# Altium footprint library PcbLib1.PcbLib: 5 footprints
Each footprint in its own frame and in the unit in brackets; x right, y up, seen from the top. Pads: shape width x height; smd on the part's side, far side on the other; paste and mask are expansions set on the pad; w line width, h text height; cw(c..) or ccw(c..) is an arc to the next point about the centre after c.
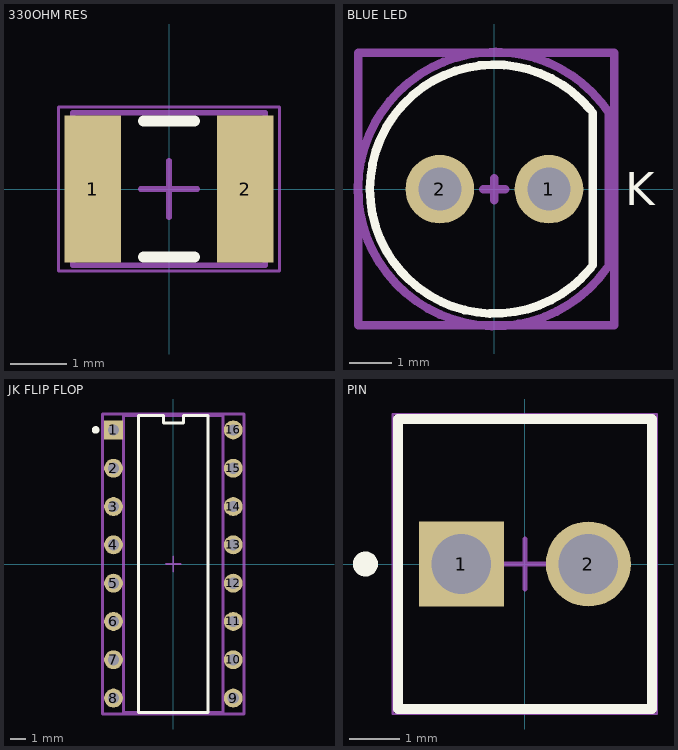
[diagram p0: the footprints below, top view; thin cyan lines are the x and y axes]

## 330OHM RES [mm] "Chip Resistor, 2-Leads, Body 3.20x2.50mm, IPC High Density"
height 0.6
pads (2):
  rect 1x2.6 smd: 1(-1.35,0) 2(1.35,0)
Top Overlay:
  lines w0.2: -0.45,-1.2 0.45,-1.2 ; -0.45,1.2 0.45,1.2
Mechanical 13:
  lines w0.1: -1.7,-1.35 1.7,-1.35 1.7,1.35 -1.7,1.35 -1.7,-1.35
Mechanical 15:
  lines w0.05: -1.95,-1.45 1.95,-1.45 1.95,1.45 -1.95,1.45 -1.95,-1.45
  lines w0.1: -0.5,0 0.5,0 ; 0,-0.5 0,0.5
3D body: height 0.6, standoff 0, extent 1.25,-1.35 1.7,1.35
3D body: height 0.6, standoff 0, extent -1.7,-1.35 -1.25,1.35
3D body: height 0.6, standoff 0, extent -1.25,-1.35 1.25,1.35

## BLUE LED [mm] "THT, LED-5mm, 2pin- Body 5.8mm"
height 12.1
pads (2):
  round 1.6 hole 1: 1(1.27,0) 2(-1.27,0)
Top Overlay:
  lines w0.2: -2.47,1.52 cw(c0,0) 2.228,1.857 ; -2.369,1.672 ccw(c0,0) 2.239,-1.844 ; 2.286,-1.778 2.286,1.778
  text "K" at 3.048,-0.381 h0.76
Mechanical 13:
  lines w0.2: -3.175,-3.175 -3.175,3.175 2.794,3.175 2.794,-3.175 -3.175,-3.175
Mechanical 15:
  lines w0.2: -0.254,0 0.254,0 ; 0,-0.254 0,0.254 ; 2.616,-1.846 cw(c0.014,0.003) 2.667,1.778 2.667,-1.778
  text "K" at 3.048,-0.381 h0.76
  text ".Designator" at 0,0 h0.76
3D body "WL-TMRW_5mm.stp": height 11.7, standoff -23.3, extent -2.9,-2.9 2.5,2.9

## JK FLIP FLOP [mm]
pads (16):
  rect 1.25x1.25 hole 0.75 paste-1000 mask+0: 1(-3.97,8.89)
  round 1.25 hole 0.75 paste-1000 mask+0: 2(-3.97,6.35) 3(-3.97,3.81) 4(-3.97,1.27) 5(-3.97,-1.27) 6(-3.97,-3.81) 7(-3.97,-6.35) 8(-3.97,-8.89) 9(3.97,-8.89) 10(3.97,-6.35) 11(3.97,-3.81) 12(3.97,-1.27) 13(3.97,1.27) 14(3.97,3.81) 15(3.97,6.35) 16(3.97,8.89)
Top Overlay:
  circle w0.25: c-5.15,8.89 r0.125
  lines w0.2: -2.3,-9.845 2.3,-9.845 2.3,9.845 0.657,9.845 0.657,9.345 -0.657,9.345 -0.657,9.845 -2.3,9.845 -2.3,-9.845
Top 3D Body:
  lines w0.2: -3.3,-9.845 -3.3,9.845 3.3,9.845 3.3,-9.845 -3.3,-9.845
Top Courtyard:
  lines w0.2: -4.695,-9.945 -4.695,9.945 4.695,9.945 4.695,-9.945 -4.695,-9.945
Top Assembly:
  lines w0.2: -4.695,-9.945 -4.695,9.945 4.695,9.945 4.695,-9.945 -4.695,-9.945
  text ".Designator" at 0,0.188 h1
Top Component Center:
  lines w0.1: -0.5,0 0.5,0 ; 0,-0.5 0,0.5
3D body "IC_Texas_Instruments_CD4040BE_eec.STEP": height 0.25, standoff 0, extent -4.695,-9.945 4.695,9.945

## PCBComponent_1 [mm]

## PIN [mm] "Header, 2-Leads, Body 5.8x5.08mm"
height 11.7
pads (2):
  rect 1.7x1.7 hole 1.19: 1(-1.27,0)
  round 1.7 hole 1.19: 2(1.27,0)
Top Overlay:
  circle w0.25: c-3.19,0 r0.125
  lines w0.2: -2.54,-2.9 2.54,-2.9 2.54,2.9 -2.54,2.9 -2.54,-2.9
Mechanical 13:
  lines w0.1: -2.54,-2.9 -2.54,2.9 2.54,2.9 2.54,-2.9 -2.54,-2.9
Mechanical 15:
  lines w0.05: -2.64,-3 2.64,-3 2.64,3 -2.64,3 -2.64,-3
  lines w0.1: -0.5,0 0.5,0 ; 0,-0.5 0,0.5
3D body "022272021.stp": height 11.72, standoff -3.54, extent -2.54,-2.9 2.54,2.9